# Altium schematic symbol library Richtek.SchLib: 1 symbol
Pins are listed as number, name and electrical type; pins without a type are passive.

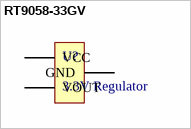
[diagram p0: symbol RT9058-33GV]

## RT9058-33GV
designator U?, comment 3.3V Regulator
IC REG LINEAR 3.3V 100MA SOT23-3; Manufacturer: Richtek; Manufacturer Part Number: RT9058-33GV; Dropout Voltage: 300mV; Number of Regulators: 1; Min Current Limit: 115mA; Min Input Voltage: 3.5V; Max Input Voltage: 36V; Supplier 1: Digi-Key; Supplier Part Number 1: 1028-1253-1-ND; Stock 1: 31192; Pricing 1: 1 = 0.66000, 10 = 0.57800, 25 = 0.54280, 100 = 0.41150, 250 = 0.35020, 500 = 0.33270, 1000 = 0.25390 (USD); RoHS: Yes; Mount: Surface Mount; Case/Package: TO-236-3; Number of Pins: 3; Min Operating Temperature: -40°C; Max Operating Temperature: 85°C; Output Current: 100mA; Packaging: Tape and Reel; Output Voltage: 3.3V; Nominal Output Voltage: 3.3V; Package Quantity: 1; REACH SVHC: Unknown; ComponentLink1URL: https://datasheet.ciiva.com/28652/1782127-28652884.pdf?src-supplier=Element14; ComponentLink1Description: https://datasheet.ciiva.com/28652/1782127-28652884.pdf?src-supplier=Element14; Category: Integrated Circuits (ICs), PMIC - Voltage Regulators - Linear
footprint SOT95P279X130-3N (SOT23, 3-Leads, Body 2.90x2.79mm, Pitch 0.95mm, IPC Medium Density)
pins: 1 VCC, 2 VOUT, 3 GND